# Altium footprint library ZCG2B.PcbLib: 1 footprints
Each footprint in its own frame and in the unit in brackets; x right, y up, seen from the top. Pads: shape width x height; smd on the part's side, far side on the other; paste and mask are expansions set on the pad; w line width, h text height; cw(c..) or ccw(c..) is an arc to the next point about the centre after c.
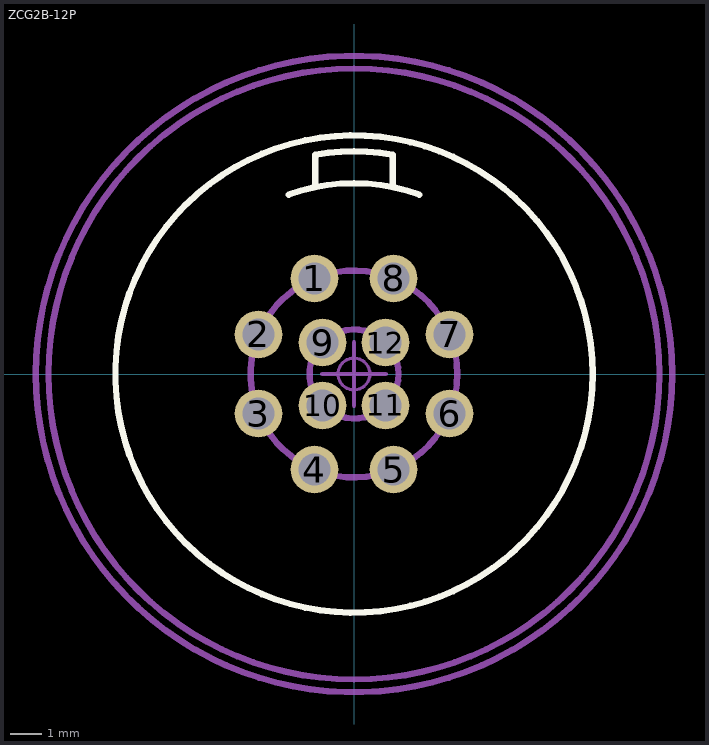
[diagram p0: the footprint, top view; thin cyan lines are the x and y axes]

## ZCG2B-12P [mm]
pads (12):
  round 1.5 hole 1: 1(-1.244,3.003) 2(-3.003,1.244) 3(-3.003,-1.244) 4(-1.244,-3.003) 5(1.244,-3.003) 6(3.003,-1.244) 7(3.003,1.244) 8(1.244,3.003) 9(-0.99,0.99) 10(-0.99,-0.99) 11(0.99,-0.99) 12(0.99,0.99)
Top Overlay:
  circle w0.2: c0,0 r7.5
  lines w0.2: -2.052,5.638 cw(c0,0) 2.052,5.638 ; -1.216,5.969 -1.216,6.894 cw(c0,0) 1.216,6.894 1.216,5.969
Mechanical 13:
  circle w0.2: c0,0 r3.25
  circle w0.2: c0,0 r1.4
Mechanical 15:
  circle w0.2: c0,0 r9.6
  circle w0.1: c0,0 r0.5
  circle w0.2: c0,0 r10
  lines w0.14: -1,0 1,0 ; 0,-1 0,1
3D body: height 24.6, standoff 21.1, extent -10,-10 10,10
3D body: height 21.1, standoff 0, extent -7.5,-7.5 7.5,7.5